# Altium footprint library OPB840L51.PcbLib: 1 footprints
Each footprint in its own frame and in the unit in brackets; x right, y up, seen from the top. Pads: shape width x height; smd on the part's side, far side on the other; paste and mask are expansions set on the pad; w line width, h text height; cw(c..) or ccw(c..) is an arc to the next point about the centre after c.
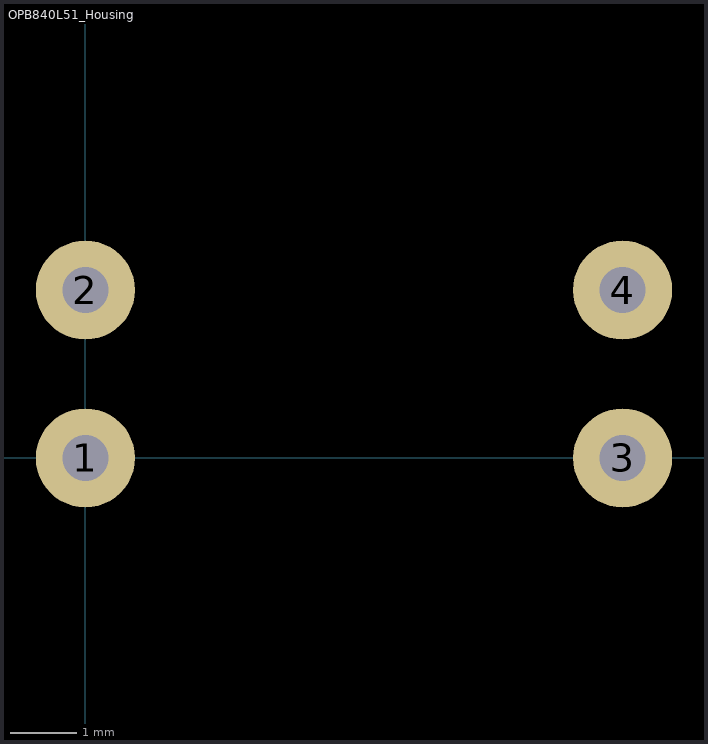
[diagram p0: the footprint, top view; thin cyan lines are the x and y axes]

## OPB840L51_Housing [mm]
pads (4):
  round 1.5 hole 0.7: 1(0,0) 2(0,2.54) 3(8.13,0) 4(8.13,2.54)
3D body "OPB840L51.STEP": height 10.54, standoff -2.5, extent -2.732,-10.311 10.218,12.839